# EAGLE library part TS4100 (library system-controller)
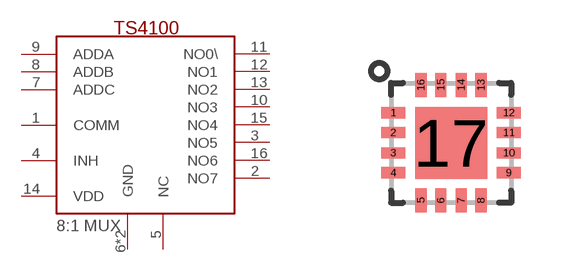
[diagram p0: symbol with the pads of QFN50P400X400X80-17N; footprint QFN50P400X400X80-17N]

Designator prefix IC

## TS4100  [QFN50P400X400X80-17N]
1  COMM
2  NO7
3  NO5
4  INH
5  NC
6  GND
7  ADDC
8  ADDB
9  ADDA
10  NO3
11  NO0\
12  NO1
13  NO2
14  VDD
15  NO4
16  NO6
17  GND

## Footprint QFN50P400X400X80-17N (pad centres in mm)
smd 0.6 x 0.28: 1 -1.444,0.752; 2 -1.444,0.254; 3 -1.444,-0.254; 4 -1.444,-0.752; 9 1.444,-0.752; 10 1.444,-0.254; 11 1.444,0.254; 12 1.444,0.752
smd 0.28 x 0.6: 5 -0.752,-1.444; 6 -0.254,-1.444; 7 0.254,-1.444; 8 0.752,-1.444; 13 0.752,1.444; 14 0.254,1.444; 15 -0.254,1.444; 16 -0.752,1.444
smd 1.8 x 1.8: 17 0,0